# Altium schematic symbol library TB6612FNG_C_8_EL.SchLib: 1 symbol
Pins are listed as number, name and electrical type; pins without a type are passive.

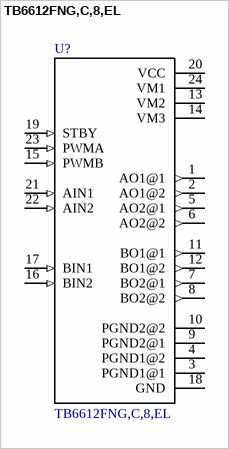
[diagram p0: symbol TB6612FNG,C,8,EL]

## TB6612FNG,C,8,EL
designator U?
IC MOTOR DRIVER PAR 24SSOP; MF: Toshiba; Price: 1.39 USD; Availability: Good; MP: TB6612FNG,C,8,EL; Package: SSOP-24 Toshiba; Value: *
footprint SOP65P760X160-24N
pins: 1 AO1@1 (out), 2 AO1@2 (out), 3 PGND1@1, 4 PGND1@2, 5 AO2@1 (out), 6 AO2@2 (out), 7 BO2@1 (out), 8 BO2@2 (out), 9 PGND2@1, 10 PGND2@2, 11 BO1@1 (out), 12 BO1@2 (out), 13 VM2 (power), 14 VM3 (power), 15 PWMB (in), 16 BIN2 (in), 17 BIN1 (in), 18 GND, 19 STBY (in), 20 VCC (power), 21 AIN1 (in), 22 AIN2 (in), 23 PWMA (in), 24 VM1 (power)